# Altium footprint library 691323300002.PcbLib: 1 footprints
Each footprint in its own frame and in the unit in brackets; x right, y up, seen from the top. Pads: shape width x height; smd on the part's side, far side on the other; paste and mask are expansions set on the pad; w line width, h text height; cw(c..) or ccw(c..) is an arc to the next point about the centre after c.
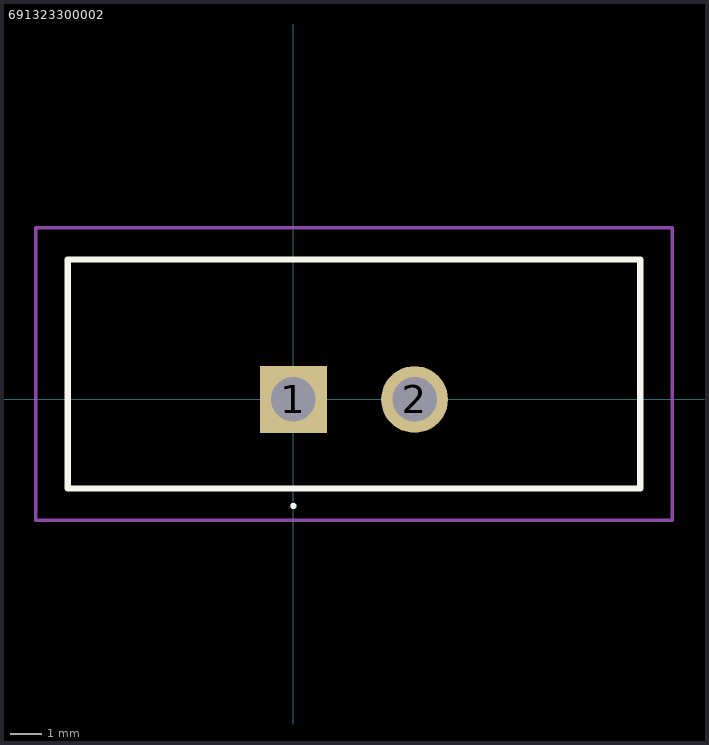
[diagram p0: the footprint, top view; thin cyan lines are the x and y axes]

## 691323300002 [mm]
pads (2):
  rect 2.1x2.1 hole 1.4: 1(0,0)
  round 2.1 hole 1.4: 2(3.81,0)
Top Overlay:
  lines w0.1: 0,-3.4 0,-3.4 ; 0,-3.4 ccw(c0,-3.35) 0,-3.3 ; 0,-3.4 cw(c0,-3.35) 0,-3.3 ; 0,-3.3 0,-3.3
  lines w0.2: -7.1,-2.8 10.91,-2.8 10.91,4.4 -7.1,4.4 -7.1,-2.8
Mechanical 15:
  lines w0.1: -7.1,-2.8 10.91,-2.8 10.91,4.4 -7.1,4.4 -7.1,-2.8
Mechanical 20:
  lines w0.1: -8.1,-3.8 11.91,-3.8 11.91,5.4 -8.1,5.4 -8.1,-3.8
3D body "691323300002.stp": height 5.8, standoff -4.65, extent -10,-3.376 10,3.376